# Altium footprint library Connector Header 200.PcbLib: 35 footprints (part 3 of 3)
Each footprint in its own frame and in the unit in brackets; x right, y up, seen from the top. Pads: shape width x height; smd on the part's side, far side on the other; paste and mask are expansions set on the pad; w line width, h text height; cw(c..) or ccw(c..) is an arc to the next point about the centre after c.
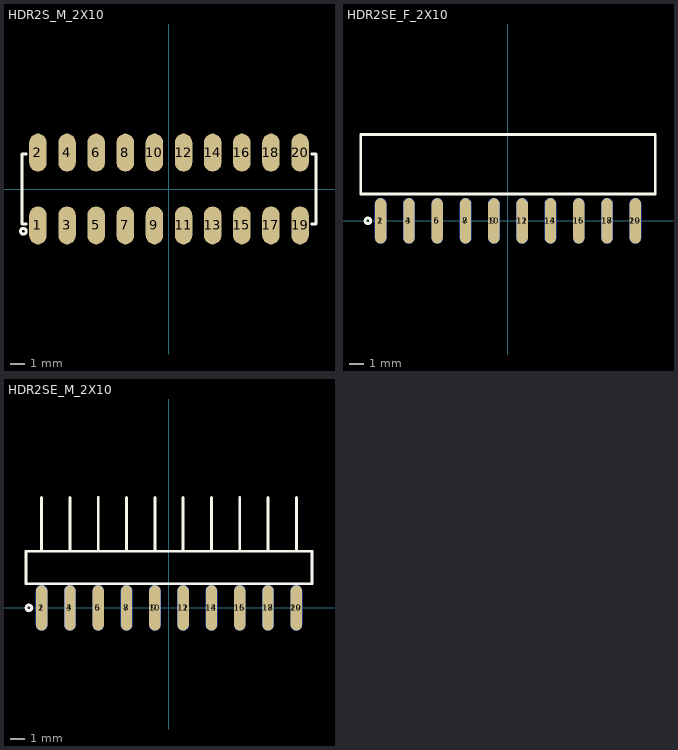
[diagram p2: the footprints below, top view; thin cyan lines are the x and y axes]

## HDR2S_M_2X10 [mm] "Header 2.0mm pitch"
height 1.2
pads (20):
  oval 1.2x2.6 smd mask+0.1: 1(-9,-2.5) 2(-9,2.5) 3(-7,-2.5) 4(-7,2.5) 5(-5,-2.5) 6(-5,2.5) 7(-3,-2.5) 8(-3,2.5) 9(-1,-2.5) 10(-1,2.5) 11(1,-2.5) 12(1,2.5) 13(3,-2.5) 14(3,2.5) 15(5,-2.5) 16(5,2.5) 17(7,-2.5) 18(7,2.5) 19(9,-2.5) 20(9,2.5)
Top Overlay:
  circle w0.2: c-10,-2.9 r0.2
  lines w0.2: -9.8,-2.4 -10.1,-2.4 -10.1,2.4 -9.8,2.4 ; 9.8,-2.4 10.1,-2.4 10.1,2.4 9.8,2.4
3D body "pin_header_a-sl200-dg-g20mp1.stp": height 6.5, standoff 0, extent -9.975,-3.25 9.975,3.25

## HDR2SE_F_2X10 [mm]
height 1.2
pads (20):
  oval 0.8x3.2 smd far side mask+0.1: 1(-9,0) 3(-7,0) 5(-5,0) 7(-3,0) 9(-1,0) 11(1,0) 13(3,0) 15(5,0) 17(7,0) 19(9,0)
  oval 0.8x3.2 smd mask+0.1: 2(-9,0) 4(-7,0) 6(-5,0) 8(-3,0) 10(-1,0) 12(1,0) 14(3,0) 16(5,0) 18(7,0) 20(9,0)
Top Overlay:
  circle w0.2: c-9.9,0 r0.2
  lines w0.2: -10.4,1.9 10.4,1.9 10.4,6.1 -10.4,6.1 -10.4,1.9
3D body "female_header_a-bl200-dg-g20d.stp": height 2.25, standoff -2.25, extent -10.25,-0.8 10.25,6

## HDR2SE_M_2X10 [mm]
height 1.2
pads (20):
  oval 0.8x3.2 smd mask+0.1: 1(-9,0) 3(-7,0) 5(-5,0) 7(-3,0) 9(-1,0) 11(1,0) 13(3,0) 15(5,0) 17(7,0) 19(9,0)
  oval 0.8x3.2 smd far side mask+0.1: 2(-9,0) 4(-7,0) 6(-5,0) 8(-3,0) 10(-1,0) 12(1,0) 14(3,0) 16(5,0) 18(7,0) 20(9,0)
Top Overlay:
  circle w0.2: c-9.9,0 r0.2
  lines w0.2: -9,4 -9,7.8 ; -7,4 -7,7.8 ; -5,4 -5,7.8 ; -3,4 -3,7.8 ; -1,4 -1,7.8 ; 1,4 1,7.8 ; 3,4 3,7.8 ; 5,4 5,7.8 ; 7,4 7,7.8 ; 9,4 9,7.8 ; -10.1,1.7 10.1,1.7 10.1,4 -10.1,4 -10.1,1.7
3D body "pin_header_a-sl200-dg-g20d.stp": height 2, standoff -2, extent -9.95,-1 9.95,7.8